# Altium schematic symbol library F 发光管.SchLib: 23 symbols
Pins are listed as number, name and electrical type; pins without a type are passive.

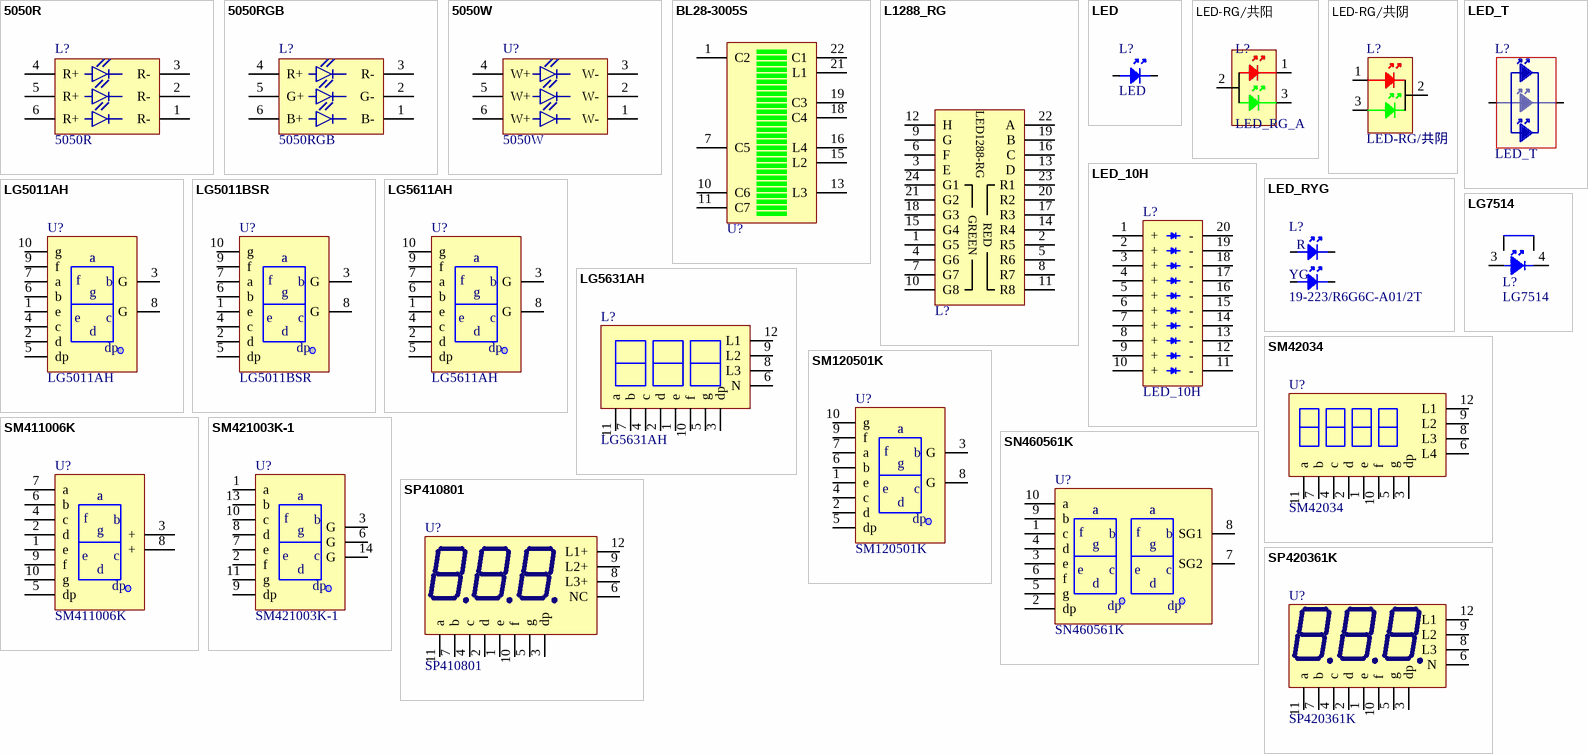
[diagram p0: symbols 5050R to SP420361K]

## 5050R
designator L?
5050红色发光二极管
pins: 1 R-, 2 R-, 3 R-, 4 R+, 5 R+, 6 R+

## 5050RGB
designator L?
5050三色发光二极管
pins: 1 B-, 2 G-, 3 R-, 4 R+, 5 G+, 6 B+

## 5050W
designator U?
5050白色发光二极管
pins: 1 W-, 2 W-, 3 W-, 4 W+, 5 W+, 6 W+

## BL28-3005S
designator U?, comment BL28-3005SK04Y  (value not drawn)
28线光柱/共阴共阳通用/绿色
pins: 1 C2, 7 C5, 10 C6, 11 C7, 13 L3, 15 L2, 16 L4, 18 C4, 19 C3, 21 L1, 22 C1

## L1288_RG
designator L?  (value not drawn)
点阵块/共阳/红绿双色
pins: 1 G5, 2 R5, 3 E, 4 G6, 5 R6, 6 F, 7 G7, 8 R7, 9 G, 10 G8, 11 R8, 12 H, 13 D, 14 R4, 15 G4, 16 C, 17 R3, 18 G3, 19 B, 20 R2, 21 G2, 22 A, 23 R1, 24 G1
text: LED1288-RG; GREEN; RED

## LED
designator L?
发光二极管
pins: 1, 2

## LED-RG/共阳
designator L?, comment LED_RG_A
红绿双色/共阳
pins: 1 R, 2 A, 3 G

## LED-RG/共阴
designator L?
红绿双色/共阴
pins: 1 R, 2 A, 3 G

## LED_10H
designator L?
10线光柱/黄绿色/亿光
pins: 1 +, 2 +, 3 +, 4 +, 5 +, 6 +, 7 +, 8 +, 9 +, 10 +, 11 -, 12 -, 13 -, 14 -, 15 -, 16 -, 17 -, 18 -, 19 -, 20 -

## LED_RYG
designator L?, comment 19-223/R6G6C-A01/2T
双色发光二极管/红色黄绿色
pins: 1, 2, 3, 4
1 alternate drawing of the same symbol
text: R; YG

## LED_T
designator L?
平面发光管/白色/3并
pins: 1, 2

## LG5011AH
designator U?
8段1位数码管/共阴
pins: 1 e, 2 d, 3 G, 4 c, 5 dp, 6 b, 7 a, 8 G, 9 f, 10 g
2 alternate drawings of the same symbol

## LG5011BSR
designator U?
8段1位数码管/共阳
pins: 1 e, 2 d, 3 G, 4 c, 5 dp, 6 b, 7 a, 8 G, 9 f, 10 g
2 alternate drawings of the same symbol

## LG5611AH
designator U?
8段1位数码管/共阴
pins: 1 e, 2 d, 3 G, 4 c, 5 dp, 6 b, 7 a, 8 G, 9 f, 10 g
2 alternate drawings of the same symbol

## LG5631AH
designator L?
8段1位数码管
pins: 1 e, 2 d, 3 dp, 4 c, 5 g, 6 N, 7 b, 8 L3, 9 L2, 10 f, 11 a, 12 L1

## LG7514
designator L?
平面发光管
pins: 1, 2, 3, 4

## SM42034
designator U?
8段4位数码管/共阴
pins: 1 e, 2 d, 3 dp, 4 c, 5 g, 6 L4, 7 b, 8 L3, 9 L2, 10 f, 11 a, 12 L1

## SM120501K
designator U?
8段1位数码管/共阴
pins: 1 e, 2 d, 3 G, 4 c, 5 dp, 6 b, 7 a, 8 G, 9 f, 10 g
2 alternate drawings of the same symbol

## SM411006K
designator U?
8段1位数码管/共阳
pins: 1 e, 2 d, 3 +, 4 c, 5 dp, 6 b, 7 a, 8 +, 9 f, 10 g

## SM421003K-1
designator U?
8段1位数码管/共阴
pins: 1 a, 2 f, 3 G, 6 G, 7 e, 8 d, 9 dp, 10 c, 11 g, 13 b, 14 G
2 alternate drawings of the same symbol

## SN460561K
designator U?
8段2位数码管/共阴//红色
pins: 1 c, 2 dp, 3 e, 4 d, 5 g, 6 f, 7 SG2, 8 SG1, 9 b, 10 a
2 alternate drawings of the same symbol

## SP410801
designator U?
8段3位数码管/共阳/红色/0.8英寸
pins: 1 e, 2 d, 3 dp, 4 c, 5 g, 6 NC, 7 b, 8 L3+, 9 L2+, 10 f, 11 a, 12 L1+

## SP420361K
designator U?
8段3位数码管/共阴/红
pins: 1 e, 2 d, 3 dp, 4 c, 5 g, 6 N, 7 b, 8 L3, 9 L2, 10 f, 11 a, 12 L1